# EAGLE library part SAA7113H (library Traficon)
9bit video input processor
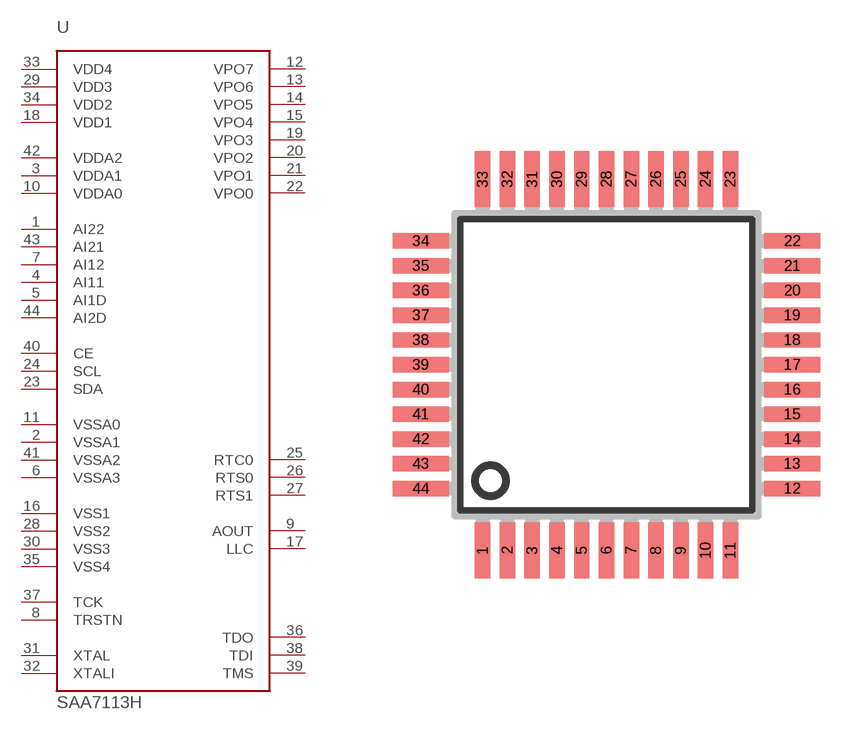
[diagram p43: symbol with the pads of QFP44_SOT307-2; footprint QFP44_SOT307-2]

Designator prefix U

## SAA7113H  [QFP44_SOT307-2]
1  AI22
2  VSSA1  pas
3  VDDA1  pas
4  AI11
5  AI1D
6  VSSA3  pas
7  AI12
8  TRSTN
9  AOUT
10  VDDA0  pas
11  VSSA0  pas
12  VPO7
13  VPO6
14  VPO5
15  VPO4
16  VSS1  pas
17  LLC
18  VDD1  pas
19  VPO3
20  VPO2
21  VPO1
22  VPO0
23  SDA
24  SCL
25  RTC0
26  RTS0
27  RTS1
28  VSS2  pas
29  VDD3  pas
30  VSS3  pas
31  XTAL
32  XTALI
33  VDD4  pas
34  VDD2  pas
35  VSS4  pas
36  TDO
37  TCK
38  TDI
39  TMS
40  CE
41  VSSA2  pas
42  VDDA2  pas
43  AI21
44  AI2D

## Footprint QFP44_SOT307-2 (pad centres in mm)
Plastic Quad Flat Package SOT307-2 44 leads (lead length 1.3 mm); body 10 x 10 x 1.75 mm SOT307-2 source: http://www.semiconductors.philips.com/ LQFP-MSQFP-QFP-SQFP-TQFP-REFLOW.pdf
smd 0.5 x 1.8: 1 -4,-6; 2 -3.2,-6; 3 -2.4,-6; 4 -1.6,-6; 5 -0.8,-6; 6 0,-6; 7 0.8,-6; 8 1.6,-6; 9 2.4,-6; 10 3.2,-6; 11 4,-6; 23 4,6; 24 3.2,6; 25 2.4,6; 26 1.6,6; 27 0.8,6; 28 0,6; 29 -0.8,6; 30 -1.6,6; 31 -2.4,6; 32 -3.2,6; 33 -4,6
smd 1.8 x 0.5: 12 6,-4; 13 6,-3.2; 14 6,-2.4; 15 6,-1.6; 16 6,-0.8; 17 6,0; 18 6,0.8; 19 6,1.6; 20 6,2.4; 21 6,3.2; 22 6,4; 34 -6,4; 35 -6,3.2; 36 -6,2.4; 37 -6,1.6; 38 -6,0.8; 39 -6,0; 40 -6,-0.8; 41 -6,-1.6; 42 -6,-2.4; 43 -6,-3.2; 44 -6,-4